# EAGLE library part USB_SER (library P442)
USB to Serial Converter (Pololu)
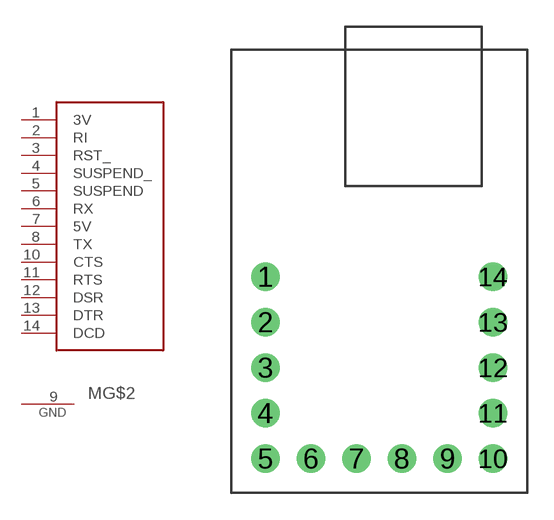
[diagram p1: symbol with the pads of USB_SER; footprint USB_SER]

Designator prefix M; gates G$1=USB_SER G$2=GND

## USB_SER  [USB_SER]
1  G$1:3V
2  G$1:RI
3  G$1:RST_
4  G$1:SUSPEND_
5  G$1:SUSPEND
6  G$1:RX
7  G$1:5V
8  G$1:TX
9  G$2:GND  pwr
10  G$1:CTS
11  G$1:RTS
12  G$1:DSR
13  G$1:DTR
14  G$1:DCD

## Footprint USB_SER (pad centres in mm)
USB to Serial Converter (Pololu)
drill 1.067: 1 -6.35,10.16; 2 -6.35,7.62; 3 -6.35,5.08; 4 -6.35,2.54; 5 -6.35,0; 6 -3.81,0; 7 -1.27,0; 8 1.27,0; 9 3.81,0; 10 6.35,0; 11 6.35,2.54; 12 6.35,5.08; 13 6.35,7.62; 14 6.35,10.16